# Altium schematic symbol library 282837-9.SchLib: 1 symbol
Pins are listed as number, name and electrical type; pins without a type are passive.

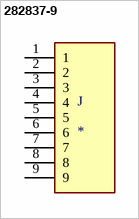
[diagram p0: symbol 282837-9]

## 282837-9
designator J
MP: 282837-9; MF: {'manufacturer': 'TE Connectivity'}; Package: None; Value: *; Availability: Unavailable; Price: None
footprint TE_282837-9
footprint TE_282837-9
pins: 1, 2, 3, 4, 5, 6, 7, 8, 9